# EAGLE library part LM2662 (library InfoAmazonia)
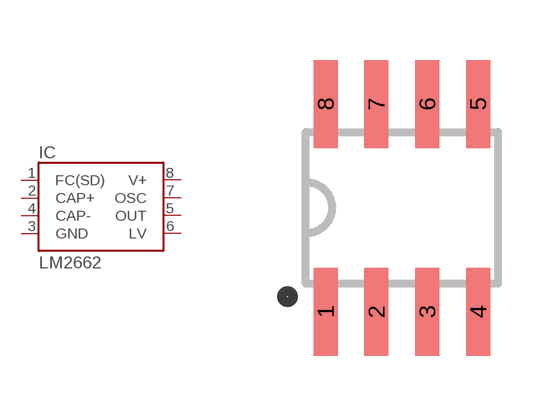
[diagram p11: symbol with the pads of SO8; footprint SO8]

Designator prefix IC

## LM2662  [SO8]
1  FC(SD)  pwr
2  CAP+  pwr
3  GND  pwr
4  CAP-
5  OUT  in
6  LV  out
7  OSC  in
8  V+

## Footprint SO8 (pad centres in mm)
8-Lead Small Outline IC (SO-8) Source: http://www.analog.com/UploadedFiles/Data_Sheets/703465986AD8611_2_0.pdf
smd 0.6 x 2.2: 1 -1.905,-2.6; 2 -0.635,-2.6; 3 0.635,-2.6; 4 1.905,-2.6; 5 1.905,2.6; 6 0.635,2.6; 7 -0.635,2.6; 8 -1.905,2.6